# Altium schematic symbol library Misc_ICs-1.SchLib: 4 symbols
Pins are listed as number, name and electrical type; pins without a type are passive.

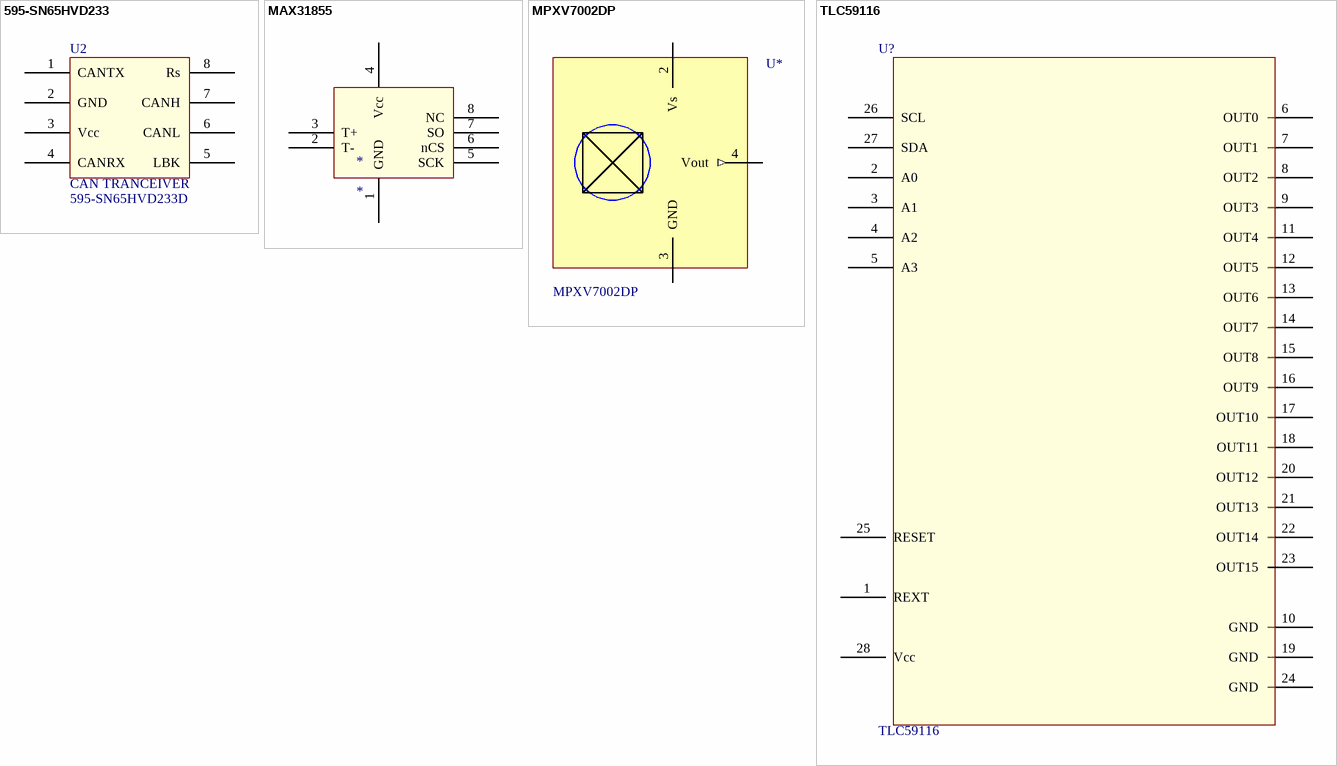
[diagram p0: symbols 595-SN65HVD233 to TLC59116]

## 595-SN65HVD233
designator U2, comment CAN TRANCEIVER  Supplier Part Number 1: 595-SN65HVD233D
Supplier 1: Mouser
footprint SOP8
pins: 1 CANTX, 2 GND, 3 Vcc, 4 CANRX, 5 LBK, 6 CANL, 7 CANH, 8 Rs

## MAX31855
designator *
footprint SO8_M (Footprint not found)
pins: 1 GND, 2 T-, 3 T+, 4 Vcc, 5 SCK, 6 nCS, 7 SO, 8 NC

## MPXV7002DP
designator U*
Freescale MPXV7002DP 2 kPa Differential Pressure Sensor; Value: MPXV7002DP
footprint SOP8
footprint MPXV7002DP
pins: 1 NC hidden, 2 Vs (power), 3 GND (power), 4 Vout (out), 5 NC hidden, 6 NC hidden, 8 NC hidden, N NC hidden

## TLC59116
designator U?
footprint TSSOP-28 (Shrink Small Outline; 28 Leads; Body Width 4.4 mm; Pitch 0.65 mm)
pins: 1 REXT, 2 A0, 3 A1, 4 A2, 5 A3, 6 OUT0, 7 OUT1, 8 OUT2, 9 OUT3, 10 GND, 11 OUT4, 12 OUT5, 13 OUT6, 14 OUT7, 15 OUT8, 16 OUT9, 17 OUT10, 18 OUT11, 19 GND, 20 OUT12, 21 OUT13, 22 OUT14, 23 OUT15, 24 GND, 25 RESET, 26 SCL, 27 SDA, 28 Vcc